# Altium schematic symbol library THT Komponente.SchLib: 2 symbols
Pins are listed as number, name and electrical type; pins without a type are passive.

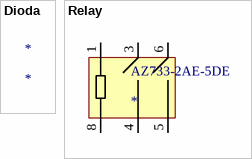
[diagram p0: symbols Dioda to Relay]

## Dioda
designator *

## Relay
designator AZ733-2AE-5DE
AZ733-2AE-5DE Relay
footprint AZ733-2AE-5DE (Relay AZ733-2AE-5DE)
pins: 1, 3, 4, 5, 6, 8